# Altium schematic symbol library YH_Design.SchLib: 153 symbols (part 1 of 3)
Pins are listed as number, name and electrical type; pins without a type are passive.

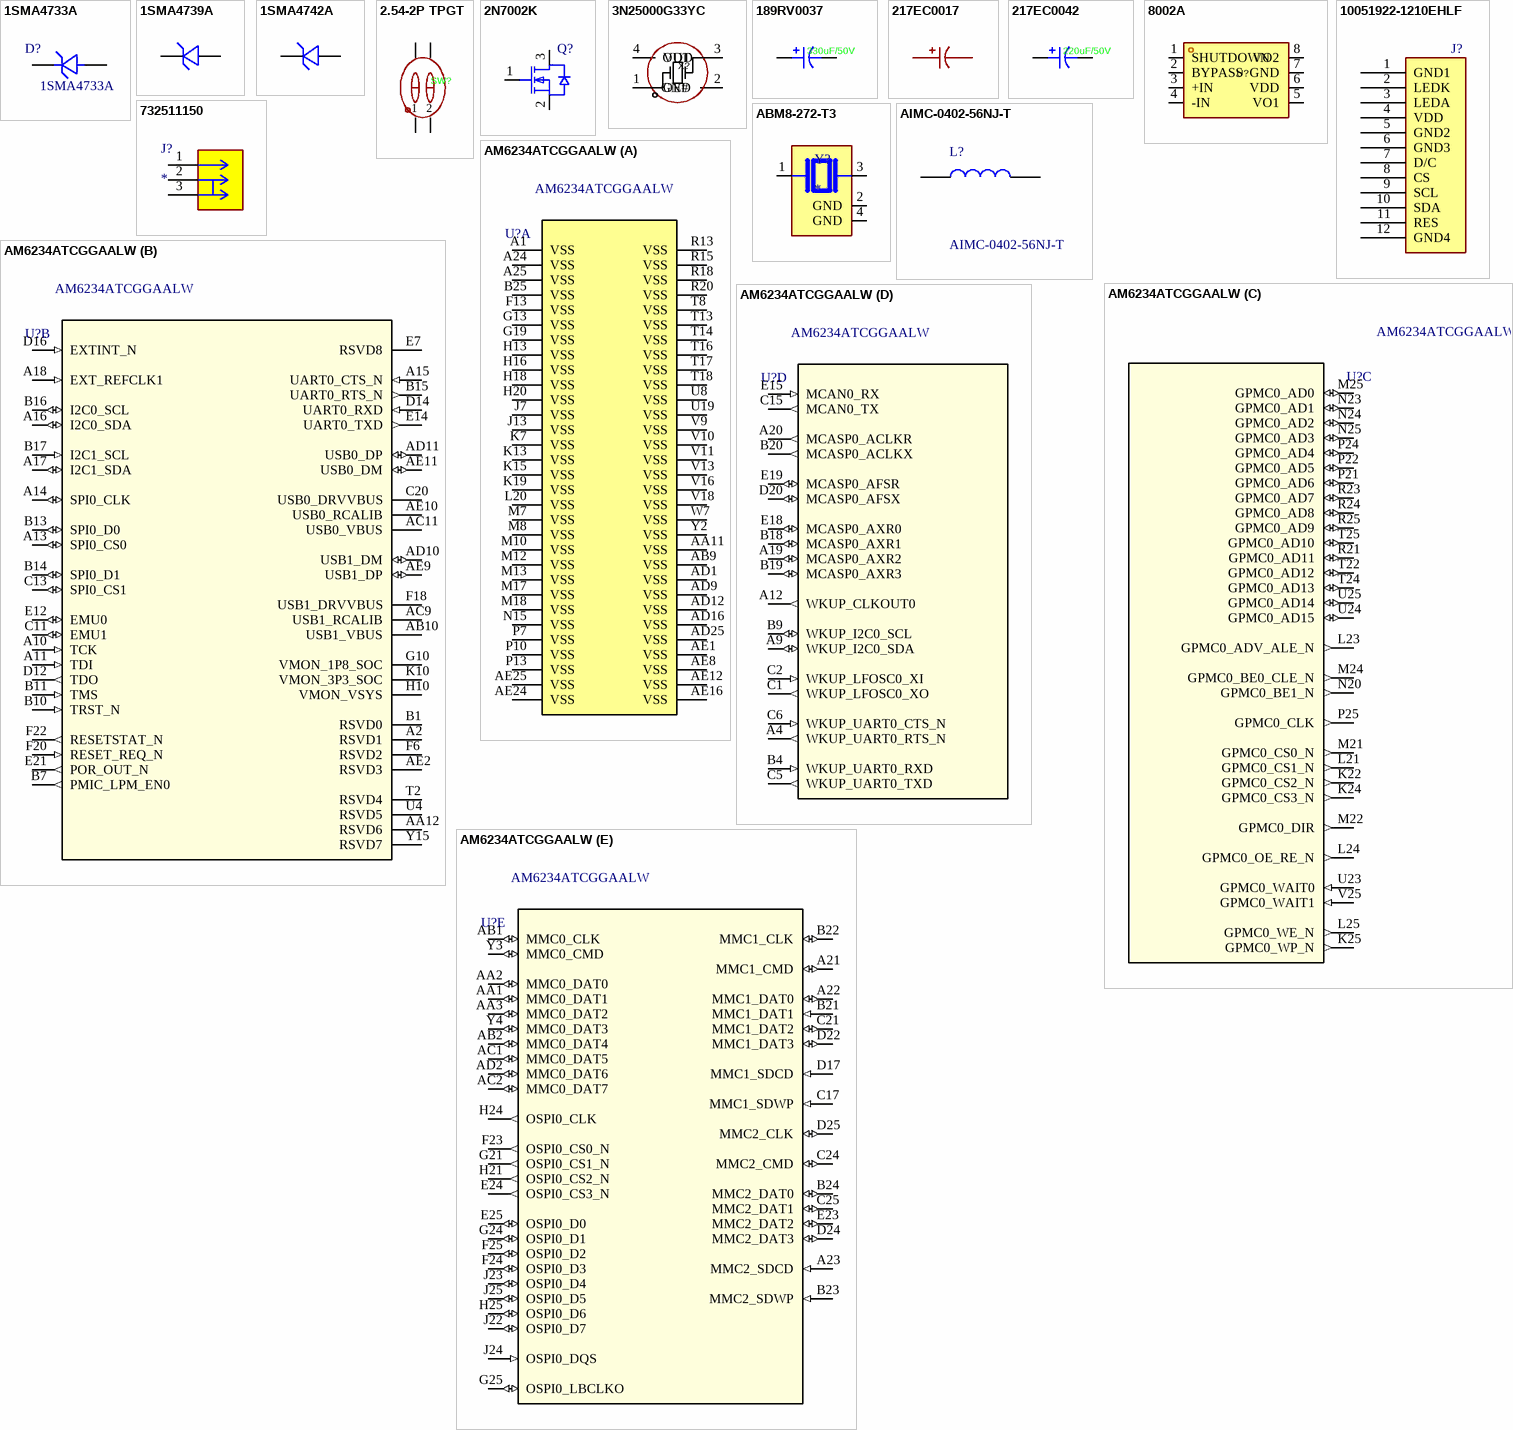
[diagram p0: symbols 1SMA4733A to AM6234ATCGGAALW]

## 1SMA4733A
designator D?
Silicon Planar Zener Diodes VZT 5.1V IZT 49mA 1W; Manufacturer: 晶导微电子; Symbol: 1SMA4733A_C382953; Add into BOM: yes; Diode Configuration: 独立式; Reverse Leakage Current (Ir): 10uA@1V; Zener Voltage(Range): 4.84V~5.36V; Impedance(Zzt): 7Ω; Device: 1SMA4733A_C382953; LCSC Part Name: 1SMA4733A; Supplier Part: C382953; Manufacturer Part: 1SMA4733A; Supplier Footprint: SMA; JLCPCB Part Class: Extended Part; Datasheet: https://atta.szlcsc.com/upload/public/pdf/source/20191016/C438379_D516EA6EC0252B18A685B1726D67BD37.pdf; Supplier: LCSC; Convert to PCB: yes; Zener Voltage(Nom): 5.1V; Pd - Power Dissipation: 1W
3D model SMA_L4.4-W2.6-LS5.0-RD
footprint SMA_L4.4-W2.6-LS5.0-RD
pins: 1 C, 2 A

## 1SMA4739A
designator D?  (value not drawn)
9.1V 1W SMA; Manufacturer: MDD(辰达半导体); Manufacturer Part: 1SMA4742A; Symbol: 1SMA4742A_C173481; Add into BOM: yes; Diode Configuration: 独立式; Zener Voltage (Nom): 12V; Reverse Leakage Current (Ir): 5uA@9V; Zener Voltage (Range): 11.4V~12.6V; Zener Impedance (Zzt): 9Ω; Device: 1SMA4742A_C173481; LCSC Part Name: 1SMA4742A; Supplier Part: C173481; Supplier Footprint: SMA(DO-214AC); JLCPCB Part Class: Extended Part; Datasheet: https://atta.szlcsc.com/upload/public/pdf/source/20241121/6A90EB39D7D47FD79B211E0E428AD9BC.pdf; Supplier: LCSC; Convert to PCB: yes; Power Dissipation: 1W
footprint SMA_L4.4-W2.8-LS5.4-RD
3D model SMA_L4.4-W2.8-LS5.4-RD
footprint SMA_L4.4-W2.8-LS5.4-RD
pins: 1, 2

## 1SMA4742A
designator D?  (value not drawn)
Manufacturer: MDD(辰达半导体); Symbol: 1SMA4742A_C173481; Add into BOM: yes; Diode Configuration: 独立式; Zener Voltage (Nom): 12V; Reverse Leakage Current (Ir): 5uA@9V; Zener Voltage (Range): 11.4V~12.6V; Power Dissipation: 1W; Zener Impedance (Zzt): 9Ω; Device: 1SMA4742A_C173481; LCSC Part Name: 1SMA4742A; Supplier Part: C173481; Manufacturer Part: 1SMA4742A; Supplier Footprint: SMA(DO-214AC); JLCPCB Part Class: Extended Part; Datasheet: https://atta.szlcsc.com/upload/public/pdf/source/20241121/6A90EB39D7D47FD79B211E0E428AD9BC.pdf; Supplier: LCSC; Convert to PCB: yes
footprint SMA_L4.4-W2.8-LS5.4-RD
3D model SMA_L4.4-W2.8-LS5.4-RD
pins: 1, 2

## 2.54-2P TPGT
designator SW?  (value not drawn)
Manufacturer: SHOU HAN(首韩); Add into BOM: yes; Circuit: 单刀单掷; Number of Positions: 2位; Current Rating: 25mA; Voltage Rating: 24V; Operating Life: 3千次; Symbol: 2.54-2P TPGT; Device: 2.54-2P TPGT; LCSC Part Name: 间距2.54mm 2位高推 拨码开关 贴片; Supplier Part: C6331180; Manufacturer Part: 2.54-2P TPGT; Supplier Footprint: SMD; JLCPCB Part Class: Extended Part; Datasheet: https://atta.szlcsc.com/upload/public/pdf/source/20240424/A4A1EBABB5A9ACD9055BAE86C09CD877.pdf; Supplier: LCSC; Convert to PCB: yes; Type: 平拨,凸起式; Lead Pitch: 2.54mm; Color: 黑色
footprint SW-SMD_2P-L5.1-W6.2-P2.54-LS9.4-BL
3D model SW-SMD_2P-L5.1-W6.2-P2.54-LS9.4-BL
pins: 1 PIN1, 2 PIN2, 3 PIN3, 4 PIN4

## 2N7002K
designator Q?, comment 2N7002K_C414015  (value not drawn)
NMOS; Manufacturer: MDD(辰达半导体); Add into BOM: yes; Type: 1个N沟道; Drain Source Voltage (Vdss): 60V; Continuous Drain Current (Id): 500mA; Power Dissipation (Pd): 300mW; Drain Source On Resistance (RDS(on)@Vgs,Id): 900mΩ@10V; Gate Threshold Voltage (Vgs(th)@Id): 1.6V@250uA; Total Gate Charge (Qg@Vgs): 930pC@10V; Input Capacitance (Ciss@Vds): 23.8pF@30V; Reverse Transfer Capacitance (Crss@Vds): 1.5pF@30V; Symbol: 2N7002K_C414015; Device: 2N7002K_C414015; LCSC Part Name: 1个N沟道 耐压:60V 电流:500mA; Supplier Part: C414015; Manufacturer Part: 2N7002K; Supplier Footprint: SOT-23; JLCPCB Part Class: Extended Part; Datasheet: https://atta.szlcsc.com/upload/public/pdf/source/20200323/C414015_B411BFD75F9E6D6E33C8732AC1E81304.pdf; Supplier: LCSC; Convert to PCB: yes; Operating Temperature: -
footprint SOT-23-3_L2.9-W1.3-P1.90-LS2.4-BR
pins: 1 G, 2 S, 3 D

## 3N25000G33YC
designator X?  (value not drawn)
Crystal Oscillator; Manufacturer: SJK(晶科鑫); Value: 25MHz; Add into BOM: yes; Supply Voltage: 1.8V~3.3V; Supply Current (Max): 5mA; Frequency Stability(Full temperature range): ±30ppm; Symbol: 3N25000G33YC; Device: 3N25000G33YC; Supplier: LCSC; Supplier Part: C252341; Manufacturer Part: 3N25000G33YC; JLCPCB Part Class: Extended Part; LCSC Part Name: 25MHz ±30ppm 3.3V 方波; Supplier Footprint: SMD3225-4P; Datasheet: https://atta.szlcsc.com/upload/public/pdf/source/20220727/F8F6B4AD7F8550667218A23BC8AA3F82.pdf; Convert to PCB: yes; Operating Temperature: -40℃~+85℃
footprint OSC-SMD_4P-L3.2-W2.5-BL
pins: 1 OE#, 2 GND, 3 OUT, 4 VDD

## 189RV0037
designator C?, comment 330uF/50V
330uF  ±20%  50V   900mA@100KHz  120mΩ@100KHz; Manufacturer: KNSCHA(科尼盛); Symbol: 217EC0042; Add into BOM: yes; Value: 220uF; Ripple Current: 2.35A@100kHz; Equivalent Series Resistance(ESR): 28mΩ@100kHz; Pin Spacing: 5mm; Lifetime: 2000hrs@105℃; Device: 217EC0042; LCSC Part Name: 220uF ±20% 50V; Supplier Part: C42371913; Manufacturer Part: 217EC0042; Supplier Footprint: SMD,D10xL10.5mm; JLCPCB Part Class: Extended Part; Datasheet: https://atta.szlcsc.com/upload/public/pdf/source/20250307/B9BB156E73A3449E8CAC92B13449DBDC.pdf; Supplier: LCSC; Convert to PCB: yes; Tolerance: ±20%; Voltage Rating: 50V; Diameter: 10mm; Height - Seated (Max): 10.5mm; Operating Temperature: -55℃~+105℃
footprint CAP-SMD_BD10.0-L10.3-W10.3-FD
pins: 1, 2

## 217EC0017
designator C?, comment 470uF  (value not drawn)
Manufacturer: KNSCHA(科尼盛); Symbol: 217EC0017; Add into BOM: yes; Tolerance: ±20%; Voltage Rated: 35V; Ripple Current: 2.6A@100kHz; Equivalent Series Resistance(ESR): 35mΩ@100kHz; Lifetime @ Temp: 2000hrs@105℃; Device: 217EC0017; LCSC Part Name: 470uF ±20% 35V; Supplier Part: C42371888; Manufacturer Part: 217EC0017; Supplier Footprint: 插件,D8xL11.5mm; Datasheet: https://atta.szlcsc.com/upload/public/pdf/source/20241106/E8F7766292FA2D98F5F6E1FEC662FC83.pdf; Supplier: LCSC; Convert to PCB: yes; Value: 470uF; Lead Spacing: 3.5mm; Diameter: 8mm; Height - Seated (Max): 11.5mm; Operating Temperature: -55℃~+105℃
footprint CAP-TH_BD8.0-P3.50-D0.6-FD
3D model CAP-TH_D8.0-H8.0-P3.50
pins: 1, 2

## 217EC0042
designator C?, comment 220uF/50V
220uF  ±20%  50V  2.35A@100kHz 28mΩ@100kHz D-10mm L-10.5mm; Manufacturer: KNSCHA(科尼盛); Symbol: 217EC0042; Add into BOM: yes; Pin Spacing: 5mm; Lifetime: 2000hrs@105℃; Device: 217EC0042; LCSC Part Name: 220uF ±20% 50V; Supplier Part: C42371913; Manufacturer Part: 217EC0042; Supplier Footprint: SMD,D10xL10.5mm; JLCPCB Part Class: Extended Part; Datasheet: https://atta.szlcsc.com/upload/public/pdf/source/20250307/B9BB156E73A3449E8CAC92B13449DBDC.pdf; Supplier: LCSC; Convert to PCB: yes; Value: 220uF; Tolerance: ±20%; Voltage Rating: 50V; Ripple Current: 2.35A@100kHz; Equivalent Series Resistance(ESR): 28mΩ@100kHz; Diameter: 10mm; Height - Seated (Max): 10.5mm; Operating Temperature: -55℃~+105℃
footprint CAP-SMD_BD10.0-L10.3-W10.3-LS11.0-FD-1
pins: 1, 2

## 8002A
designator U?
Manufacturer: IDCHIP(英锐芯); Symbol: 8002A; Add into BOM: yes; Speaker Channels: 单声道; Output Power: 3Wx1@4Ω; Supply Voltage: 2.2V~5.5V; Device: 8002A; LCSC Part Name: 8002A; Supplier Part: C329448; Manufacturer Part: 8002A; Supplier Footprint: SOP-8; JLCPCB Part Class: Extended Part; Datasheet: https://atta.szlcsc.com/upload/public/pdf/source/20190322/C329448_5EF9C50C87CEA30F05517486CD56551D.pdf; Supplier: LCSC; Convert to PCB: yes; Type of Power Amplifier: -; Quiescent Current (Iq): -; Operating Temperature: -
footprint SOP-8_L4.9-W3.9-P1.27-LS6.0-BL-EP
pins: 1 SHUTDOWN, 2 BYPASS, 3 +IN, 4 -IN, 5 VO1, 6 VDD, 7 GND, 8 VO2

## 10051922-1210EHLF
designator J?
0.50mm Flex Connector, VLL Series, 12 Position, Lower Side Contact, Side Entry Surface Mount ZIF Connector, Halogen-free & Lead Free Type.; MF: Amphenol ICC (FCI); MP: 10051922-1210EHLF; Package: None; Price: None; Value: *; Availability: Unavailable
footprint AMPHENOL_10051922-1210EHLF
pins: 1 GND1, 2 LEDK, 3 LEDA, 4 VDD, 5 GND2, 6 GND3, 7 D/C, 8 CS, 9 SCL, 10 SDA, 11 RES, 12 GND4

## 732511150
designator J?
Right Angle 50Ohms Edge Mount SMA Connector, jack, Solder Termination | Molex Incorporated 73251-1150; SnapEDA_Link: https://www.snapeda.com/parts/73251-1150/Molex/view-part/?ref=snap; Package: None; Value: *; MF: Molex; MP: 73251-1150; Check_prices: https://www.snapeda.com/parts/73251-1150/Molex/view-part/?ref=eda
footprint CONN_73251-1150_MOL
pins: 1, 2, 3

## ABM8-272-T3
designator Y?
12 MHz Â±30ppm Crystal 10pF 50 Ohms 4-SMD, No Lead; MF: ABRACON; MP: ABM8-272-T3; SnapEDA_Link: https://www.snapeda.com/parts/ABM8-272-T3/Abracon/view-part/?ref=snap; Package: NON-STANDARD-4 Abracon; Value: *; Check_prices: https://www.snapeda.com/parts/ABM8-272-T3/Abracon/view-part/?ref=eda
footprint XTAL_ABM8-272-T3
pins: 1, 2 GND (power), 3, 4 GND (power)

## AIMC-0402-56NJ-T
designator L?
56 nH Unshielded Multilayer Inductor 200 mA 1.8Ohm Max 0402 (1005 Metric); Manufacturer_Name: ABRACON; Geometry.Height: 0.65mm; Manufacturer_Part_Number: AIMC-0402-56NJ-T; Mouser Part Number: *; Mouser Price/Stock: *; Arrow Part Number: *; Arrow Price/Stock: *; Datasheet Link: https://abracon.com/Magnetics/new/AIMC-0402.pdf
footprint INDC1005X65N
pins: 1, 2

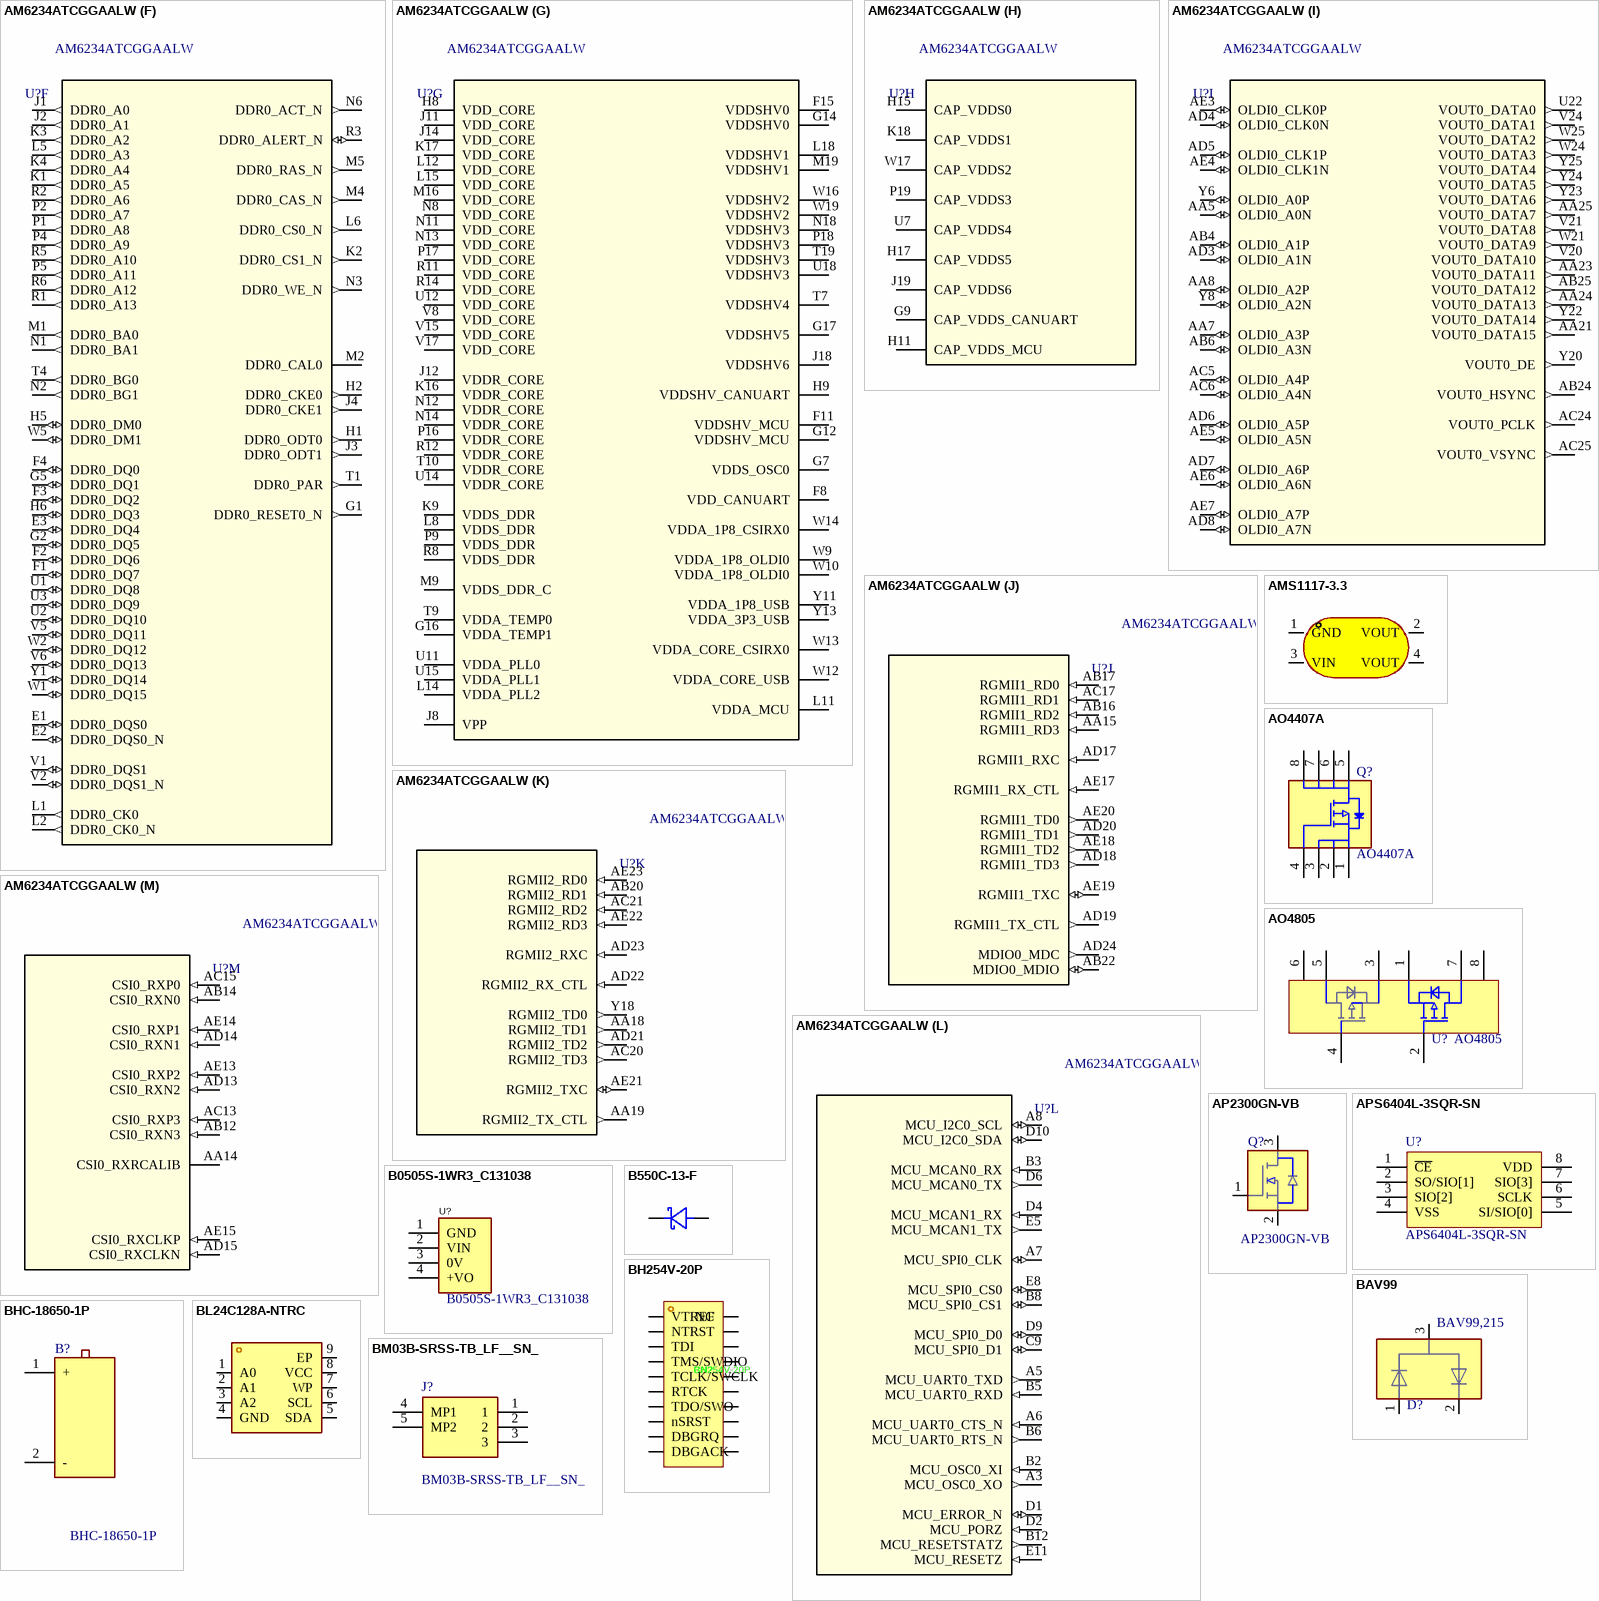
[diagram p1: symbols AM6234ATCGGAALW to BM03B-SRSS-TB_LF__SN_]

## AM6234ATCGGAALW
designator U?
Internet of Things (IoT) and gateway SoC with ArmÂ® CortexÂ®-A53-based object and gesture recognition 425-FCCSP -40 to 105; Manufacturer_Name: Texas Instruments; Manufacturer_Part_Number: XAM6234ATCGGAALW; TYPE: TYPE; RefDes: RefDes; Copyright: Copyright (C) 2026 Ultra Librarian. All rights reserved.
footprint ALW0425A-MFG
part A pins: A1 VSS (power), A24 VSS (power), A25 VSS (power), AA11 VSS (power), AB9 VSS (power), AD1 VSS (power), AD9 VSS (power), AD12 VSS (power), AD16 VSS (power), AD25 VSS (power), AE1 VSS (power), AE8 VSS (power), AE12 VSS (power), AE16 VSS (power), AE24 VSS (power), AE25 VSS (power), B25 VSS (power), F13 VSS (power), G13 VSS (power), G19 VSS (power), H13 VSS (power), H16 VSS (power), H18 VSS (power), H20 VSS (power), J7 VSS (power), J13 VSS (power), K7 VSS (power), K13 VSS (power), K15 VSS (power), K19 VSS (power), L20 VSS (power), M7 VSS (power), M8 VSS (power), M10 VSS (power), M12 VSS (power), M13 VSS (power), M17 VSS (power), M18 VSS (power), N15 VSS (power), P7 VSS (power), P10 VSS (power), P13 VSS (power), R13 VSS (power), R15 VSS (power), R18 VSS (power), R20 VSS (power), T8 VSS (power), T13 VSS (power), T14 VSS (power), T16 VSS (power), T17 VSS (power), T18 VSS (power), U8 VSS (power), U19 VSS (power), V9 VSS (power), V10 VSS (power), V11 VSS (power), V13 VSS (power), V16 VSS (power), V18 VSS (power), W7 VSS (power), Y2 VSS (power)
part B pins: A2 RSVD1, A10 TCK (in), A11 TDI (in), A13 SPI0_CS0 (io), A14 SPI0_CLK (io), A15 UART0_CTS_N (in), A16 I2C0_SDA (io), A17 I2C1_SDA (io), A18 EXT_REFCLK1 (in), AA12 RSVD6, AB10 USB1_VBUS (power), AC9 USB1_RCALIB, AC11 USB0_VBUS (power), AD10 USB1_DM (io), AD11 USB0_DP (io), AE2 RSVD3, AE9 USB1_DP (io), AE10 USB0_RCALIB, AE11 USB0_DM (io), B1 RSVD0, B7 PMIC_LPM_EN0 (out), B10 TRST_N (in), B11 TMS (in), B13 SPI0_D0 (io), B14 SPI0_D1 (io), B15 UART0_RTS_N (out), B16 I2C0_SCL (io), B17 I2C1_SCL (in), C11 EMU1 (io), C13 SPI0_CS1 (io), C20 USB0_DRVVBUS, D12 TDO (out), D14 UART0_RXD (in), D16 EXTINT_N (in), E7 RSVD8, E12 EMU0 (io), E14 UART0_TXD (out), E21 POR_OUT_N (out), F6 RSVD2, F18 USB1_DRVVBUS, F20 RESET_REQ_N (in), F22 RESETSTAT_N (out), G10 VMON_1P8_SOC, H10 VMON_VSYS, K10 VMON_3P3_SOC, T2 RSVD4, U4 RSVD5, Y15 RSVD7
part C pins: K22 GPMC0_CS2_N (out), K24 GPMC0_CS3_N (out), K25 GPMC0_WP_N (out), L21 GPMC0_CS1_N (out), L23 GPMC0_ADV_ALE_N (out), L24 GPMC0_OE_RE_N (out), L25 GPMC0_WE_N (out), M21 GPMC0_CS0_N (out), M22 GPMC0_DIR (out), M24 GPMC0_BE0_CLE_N (out), M25 GPMC0_AD0 (io), N20 GPMC0_BE1_N (out), N23 GPMC0_AD1 (io), N24 GPMC0_AD2 (io), N25 GPMC0_AD3 (io), P21 GPMC0_AD6 (io), P22 GPMC0_AD5 (io), P24 GPMC0_AD4 (io), P25 GPMC0_CLK (out), R21 GPMC0_AD11 (io), R23 GPMC0_AD7 (io), R24 GPMC0_AD8 (io), R25 GPMC0_AD9 (io), T22 GPMC0_AD12 (io), T24 GPMC0_AD13 (io), T25 GPMC0_AD10 (io), U23 GPMC0_WAIT0 (in), U24 GPMC0_AD15 (io), U25 GPMC0_AD14 (io), V25 GPMC0_WAIT1 (in)
part D pins: A4 WKUP_UART0_RTS_N (out), A9 WKUP_I2C0_SDA (io), A12 WKUP_CLKOUT0 (out), A19 MCASP0_AXR2 (io), A20 MCASP0_ACLKR (out), B4 WKUP_UART0_RXD (in), B9 WKUP_I2C0_SCL (io), B18 MCASP0_AXR1 (io), B19 MCASP0_AXR3 (io), B20 MCASP0_ACLKX (out), C1 WKUP_LFOSC0_XO (out), C2 WKUP_LFOSC0_XI (in), C5 WKUP_UART0_TXD (out), C6 WKUP_UART0_CTS_N (in), C15 MCAN0_TX (out), D20 MCASP0_AFSX (io), E15 MCAN0_RX (in), E18 MCASP0_AXR0 (io), E19 MCASP0_AFSR (io)
part E pins: A21 MMC1_CMD (io), A22 MMC1_DAT0 (io), A23 MMC2_SDCD (in), AA1 MMC0_DAT1 (io), AA2 MMC0_DAT0 (io), AA3 MMC0_DAT2 (io), AB1 MMC0_CLK (io), AB2 MMC0_DAT4 (io), AC1 MMC0_DAT5 (io), AC2 MMC0_DAT7 (io), AD2 MMC0_DAT6 (io), B21 MMC1_DAT1 (in), B22 MMC1_CLK (io), B23 MMC2_SDWP (in), B24 MMC2_DAT0 (io), C17 MMC1_SDWP (in), C21 MMC1_DAT2 (io), C24 MMC2_CMD (io), C25 MMC2_DAT1 (io), D17 MMC1_SDCD (in), D22 MMC1_DAT3 (io), D24 MMC2_DAT3 (io), D25 MMC2_CLK (io), E23 MMC2_DAT2 (io), E24 OSPI0_CS3_N (out), E25 OSPI0_D0 (io), F23 OSPI0_CS0_N (out), F24 OSPI0_D3 (io), F25 OSPI0_D2 (io), G21 OSPI0_CS1_N (out), G24 OSPI0_D1 (io), G25 OSPI0_LBCLKO (io), H21 OSPI0_CS2_N (out), H24 OSPI0_CLK (out), H25 OSPI0_D6 (io), J22 OSPI0_D7 (io), J23 OSPI0_D4 (io), J24 OSPI0_DQS (in), J25 OSPI0_D5 (io), Y3 MMC0_CMD (io), Y4 MMC0_DAT3 (io)
part F pins: E1 DDR0_DQS0 (io), E2 DDR0_DQS0_N (io), E3 DDR0_DQ4 (io), F1 DDR0_DQ7 (io), F2 DDR0_DQ6 (io), F3 DDR0_DQ2 (io), F4 DDR0_DQ0 (io), G1 DDR0_RESET0_N (out), G2 DDR0_DQ5 (io), G5 DDR0_DQ1 (io), H1 DDR0_ODT0 (out), H2 DDR0_CKE0 (out), H5 DDR0_DM0 (io), H6 DDR0_DQ3 (io), J1 DDR0_A0 (out), J2 DDR0_A1 (out), J3 DDR0_ODT1 (out), J4 DDR0_CKE1 (out), K1 DDR0_A5 (out), K2 DDR0_CS1_N (out), K3 DDR0_A2 (out), K4 DDR0_A4 (out), L1 DDR0_CK0 (out), L2 DDR0_CK0_N (out), L5 DDR0_A3 (out), L6 DDR0_CS0_N (out), M1 DDR0_BA0 (out), M2 DDR0_CAL0, M4 DDR0_CAS_N (out), M5 DDR0_RAS_N (out), N1 DDR0_BA1 (out), N2 DDR0_BG1 (out), N3 DDR0_WE_N (out), N6 DDR0_ACT_N (out), P1 DDR0_A8 (out), P2 DDR0_A7 (out), P4 DDR0_A9 (out), P5 DDR0_A11 (out), R1 DDR0_A13 (out), R2 DDR0_A6 (out), R3 DDR0_ALERT_N (io), R5 DDR0_A10 (out), R6 DDR0_A12 (out), T1 DDR0_PAR (out), T4 DDR0_BG0 (out), U1 DDR0_DQ8 (io), U2 DDR0_DQ10 (io), U3 DDR0_DQ9 (io), V1 DDR0_DQS1 (io), V2 DDR0_DQS1_N (io), V5 DDR0_DQ11 (io), V6 DDR0_DQ13 (io), W1 DDR0_DQ15 (io), W2 DDR0_DQ12 (io), W5 DDR0_DM1 (io), Y1 DDR0_DQ14 (io)
part G pins: F8 VDD_CANUART (power), F11 VDDSHV_MCU (power), F15 VDDSHV0 (power), G7 VDDS_OSC0 (power), G12 VDDSHV_MCU (power), G14 VDDSHV0 (power), G16 VDDA_TEMP1 (power), G17 VDDSHV5 (power), H8 VDD_CORE (power), H9 VDDSHV_CANUART (power), J8 VPP (power), J11 VDD_CORE (power), J12 VDDR_CORE (power), J14 VDD_CORE (power), J18 VDDSHV6 (power), K9 VDDS_DDR (power), K16 VDDR_CORE (power), K17 VDD_CORE (power), L8 VDDS_DDR (power), L11 VDDA_MCU (power), L12 VDD_CORE (power), L14 VDDA_PLL2 (power), L15 VDD_CORE (power), L18 VDDSHV1 (power), M9 VDDS_DDR_C (power), M16 VDD_CORE (power), M19 VDDSHV1 (power), N8 VDD_CORE (power), N11 VDD_CORE (power), N12 VDDR_CORE (power), N13 VDD_CORE (power), N14 VDDR_CORE (power), N18 VDDSHV3 (power), P9 VDDS_DDR (power), P16 VDDR_CORE (power), P17 VDD_CORE (power), P18 VDDSHV3 (power), R8 VDDS_DDR (power), R11 VDD_CORE (power), R12 VDDR_CORE (power), R14 VDD_CORE (power), T7 VDDSHV4 (power), T9 VDDA_TEMP0 (power), T10 VDDR_CORE (power), T19 VDDSHV3 (power), U11 VDDA_PLL0 (power), U12 VDD_CORE (power), U14 VDDR_CORE (power), U15 VDDA_PLL1 (power), U18 VDDSHV3 (power), V8 VDD_CORE (power), V15 VDD_CORE (power), V17 VDD_CORE (power), W9 VDDA_1P8_OLDI0 (power), W10 VDDA_1P8_OLDI0 (power), W12 VDDA_CORE_USB (power), W13 VDDA_CORE_CSIRX0 (power), W14 VDDA_1P8_CSIRX0 (power), W16 VDDSHV2 (power), W19 VDDSHV2 (power), Y11 VDDA_1P8_USB (power), Y13 VDDA_3P3_USB (power)
part H pins: G9 CAP_VDDS_CANUART, H11 CAP_VDDS_MCU, H15 CAP_VDDS0, H17 CAP_VDDS5, J19 CAP_VDDS6, K18 CAP_VDDS1, P19 CAP_VDDS3, U7 CAP_VDDS4, W17 CAP_VDDS2
part I pins: AA5 OLDI0_A0N (io), AA7 OLDI0_A3P (io), AA8 OLDI0_A2P (io), AA21 VOUT0_DATA15 (out), AA23 VOUT0_DATA11 (out), AA24 VOUT0_DATA13 (out), AA25 VOUT0_DATA7 (out), AB4 OLDI0_A1P (io), AB6 OLDI0_A3N (io), AB24 VOUT0_HSYNC (out), AB25 VOUT0_DATA12 (out), AC5 OLDI0_A4P (io), AC6 OLDI0_A4N (io), AC24 VOUT0_PCLK (out), AC25 VOUT0_VSYNC (out), AD3 OLDI0_A1N (io), AD4 OLDI0_CLK0N (io), AD5 OLDI0_CLK1P (io), AD6 OLDI0_A5P (io), AD7 OLDI0_A6P (io), AD8 OLDI0_A7N (io), AE3 OLDI0_CLK0P (io), AE4 OLDI0_CLK1N (io), AE5 OLDI0_A5N (io), AE6 OLDI0_A6N (io), AE7 OLDI0_A7P (io), U22 VOUT0_DATA0 (out), V20 VOUT0_DATA10 (out), V21 VOUT0_DATA8 (out), V24 VOUT0_DATA1 (out), W21 VOUT0_DATA9 (out), W24 VOUT0_DATA3 (out), W25 VOUT0_DATA2 (out), Y6 OLDI0_A0P (io), Y8 OLDI0_A2N (io), Y20 VOUT0_DE (out), Y22 VOUT0_DATA14 (out), Y23 VOUT0_DATA6 (out), Y24 VOUT0_DATA5 (out), Y25 VOUT0_DATA4 (out)
part J pins: AA15 RGMII1_RD3 (in), AB16 RGMII1_RD2 (in), AB17 RGMII1_RD0 (in), AB22 MDIO0_MDIO (io), AC17 RGMII1_RD1 (in), AD17 RGMII1_RXC (in), AD18 RGMII1_TD3 (out), AD19 RGMII1_TX_CTL (out), AD20 RGMII1_TD1 (out), AD24 MDIO0_MDC (out), AE17 RGMII1_RX_CTL (in), AE18 RGMII1_TD2 (out), AE19 RGMII1_TXC (io), AE20 RGMII1_TD0 (out)
part K pins: AA18 RGMII2_TD1 (out), AA19 RGMII2_TX_CTL (out), AB20 RGMII2_RD1 (in), AC20 RGMII2_TD3 (out), AC21 RGMII2_RD2 (in), AD21 RGMII2_TD2 (out), AD22 RGMII2_RX_CTL (in), AD23 RGMII2_RXC (in), AE21 RGMII2_TXC (io), AE22 RGMII2_RD3 (in), AE23 RGMII2_RD0 (in), Y18 RGMII2_TD0 (out)
part L pins: A3 MCU_OSC0_XO (out), A5 MCU_UART0_TXD (out), A6 MCU_UART0_CTS_N (in), A7 MCU_SPI0_CLK (io), A8 MCU_I2C0_SCL (io), B2 MCU_OSC0_XI (in), B3 MCU_MCAN0_RX (in), B5 MCU_UART0_RXD (in), B6 MCU_UART0_RTS_N (out), B8 MCU_SPI0_CS1 (io), B12 MCU_RESETSTATZ (out), C9 MCU_SPI0_D1 (io), D1 MCU_ERROR_N (io), D2 MCU_PORZ (in), D4 MCU_MCAN1_RX (in), D6 MCU_MCAN0_TX (out), D9 MCU_SPI0_D0 (io), D10 MCU_I2C0_SDA (io), E5 MCU_MCAN1_TX (out), E8 MCU_SPI0_CS0 (io), E11 MCU_RESETZ (in)
part M pins: AA14 CSI0_RXRCALIB, AB12 CSI0_RXN3 (in), AB14 CSI0_RXN0 (in), AC13 CSI0_RXP3 (in), AC15 CSI0_RXP0 (in), AD13 CSI0_RXN2 (in), AD14 CSI0_RXN1 (in), AD15 CSI0_RXCLKN (in), AE13 CSI0_RXP2 (in), AE14 CSI0_RXP1 (in), AE15 CSI0_RXCLKP (in)

## AMS1117-3.3
designator U?  (value not drawn)
Manufacturer: AMS; Device: AMS1117-3.3_C6186; Add into BOM: yes; Output Type: 固定; Output Voltage: 3.3V; Output Current: 1A; Power Supply Rejection Ratio (PSRR): 72dB@(120Hz); Voltage Dropout: 1.3V@(800mA); Output Configuration: 正极; Number of Outputs: 1; Symbol: AMS1117-3.3; LCSC Part Name: 输出3.3V 1A; Supplier Part: C6186; Manufacturer Part: AMS1117-3.3; Supplier Footprint: SOT-223; JLCPCB Part Class: Basic Part; Datasheet: https://atta.szlcsc.com/upload/public/pdf/source/20180727/C6186_7A095716F0823C02F1997A905E26C086.pdf; Supplier: LCSC; Convert to PCB: yes; Voltage - Supply: -; standby current: -; Noise: -; Features: 过流保护(OCP)；热关断(TSD); Operating Temperature: -
footprint SOT-223-3_L6.5-W3.4-P2.30-LS7.0-BR
3D model SOT-223-4P_L6.5-W3.5-H1.6-LS7.0-P2.30
pins: 1 GND, 2 VOUT, 3 VIN, 4 VOUT

## AO4407A
designator Q?
30V P-Channel MOSFET; Manufacturer_Name: Alpha & Omega Semiconductors; Geometry.Height: 1.75mm; Manufacturer_Part_Number: AO4407A; Mouser Part Number: *; Mouser Price/Stock: *; Arrow Part Number: AO4407A; Arrow Price/Stock: https://www.arrow.com/en/products/ao4407a/alpha-and-omega-semiconductor?utm_currency=USD&region=nac; Datasheet Link: http://aosmd.com/res/data_sheets/AO4407A.pdf
footprint SOIC127P600X175-8N
pins: 1 S_1, 2 S_2, 3 S_3, 4 G, 5 D_1, 6 D_2, 7 D_3, 8 D_4

## AO4805
designator U?
Trans MOSFET P-CH 30V 9A 8-Pin SOIC; Manufacturer_Name: Alpha & Omega Semiconductors; Geometry.Height: 1.75mm; Manufacturer_Part_Number: AO4805; Mouser Part Number: *; Mouser Price/Stock: *; Arrow Part Number: AO4805; Arrow Price/Stock: https://www.arrow.com/en/products/ao4805/alpha-and-omega-semiconductor?utm_currency=USD&region=nac; Datasheet Link: http://www.aosmd.com/res/data_sheets/AO4805.pdf
footprint SOIC127P600X175-8N
pins: 1 S2, 2 G2, 3 S1, 4 G1, 5 D1_1, 6 D1_2, 7 D2_1, 8 D2_2

## AP2300GN-VB
designator Q?
Halogen-free According to IEC 61249-2-21 Definition  TrenchFET Power MOSFET  100 % Rg Tested  Compliant to RoHS Directive 2002/95/EC; Manufacturer_Name: VBsemi Elec; Geometry.Height: 1.12mm; Manufacturer_Part_Number: AP2300GN-VB; Mouser Part Number: *; Mouser Price/Stock: *; Arrow Part Number: *; Arrow Price/Stock: *; Datasheet Link: https://datasheet.lcsc.com/lcsc/2211010930_VBsemi-Elec-AP2300GN-VB_C709910.pdf
footprint SOT95P237X112-3N
pins: 1 G, 2 S, 3 D

## APS6404L-3SQR-SN
designator U?
DRAM IoT RAM 64Mb QSPI (x1,x4) SDR 133/84MHz, RBX, 3V, Ind. Temp., SOP8; Manufacturer_Name: AP Memory; Geometry.Height: 1.75mm; Manufacturer_Part_Number: APS6404L-3SQR-SN; Mouser Part Number: 878-APS6404L-3SQR-SN; Mouser Price/Stock: https://www.mouser.co.uk/ProductDetail/AP-Memory/APS6404L-3SQR-SN?qs=IS%252B4QmGtzzqsn3S5xo%2FEEg%3D%3D; Arrow Part Number: *; Arrow Price/Stock: *; Datasheet Link: https://eu.mouser.com/datasheet/2/1127/APM_PSRAM_QSPI_APS6404L_3SQR_v2_3_PKG-1954826.pdf
footprint SOIC127P600X175-8N
pins: 1 ~{CE}, 2 SO/SIO[1], 3 SIO[2], 4 VSS, 5 SI/SIO[0], 6 SCLK, 7 SIO[3], 8 VDD

## B0505S-1WR3_C131038
designator U?
Iso DC/DC Module; Manufacturer: MORNSUN(金升阳); Add into BOM: yes; Conversion Type: DC-DC; Input Voltage(DC): 4.5V~5.5V; Output Voltage: 5V; Output Power: 1W; Output Current (Max): 200mA; Isolation or not: 隔离; Output Channel: 1; Insulated Voltage: 3kV; Conversion Efficiency: 82%; Symbol: B0505S-1WR3; Device: B0505S-1WR3_C131038; Supplier: LCSC; Manufacturer Part: B0505S-1WR3; Supplier Part: C131038; JLCPCB Part Class: Extended Part; LCSC Part Name: B0505S-1WR3; Supplier Footprint: SIP,11.6x6mm; Datasheet: https://atta.szlcsc.com/upload/public/pdf/source/20171014/C133158_15079754745431038194.pdf; Convert to PCB: yes; Function: -; Feature: 短路保护; Maximum Capacitive Load: -
footprint PWRM-TH_B0503S-1WR2
pins: 1 GND, 2 VIN, 3 0V, 4 +VO

## B550C-13-F
designator D?  (value not drawn)
Manufacturer: DIODES(美台); Add into BOM: yes; Forward Voltage (Vf@If): 575mV@5A; Reverse Voltage (Vr): 50V; Rectified Current: 5A; Reverse Leakage Current (Ir): 500uA@50V; Symbol: B550C-13-F; Device: B550C-13-F; LCSC Part Name: 电压:50V 电流:5A; Supplier Part: C134461; Manufacturer Part: B550C-13-F; Supplier Footprint: SMC(DO-214AB); JLCPCB Part Class: Extended Part; Datasheet: https://atta.szlcsc.com/upload/public/pdf/source/20171023/C134461_15087453602301052556.pdf; Supplier: LCSC; Convert to PCB: yes; Diode Configuration: -
footprint SMC_L6.9-W5.9-LS7.9-RD
3D model SMC_L6.9-W5.9-LS7.9-RD
footprint SMC_L6.9-W5.9-LS7.9-RD
pins: 1 C, 2 A

## BAV99
designator D?, comment BAV99,215
High-speed switching diode; Manufacturer: Nexperia(安世); Add into BOM: yes; Diode Configuration: 1对串联式; Forward Voltage (Vf@If): 1.25V@150mA; Reverse Voltage (Vr): 100V; Average Rectified Current (Io): 215mA; Power Dissipation: 250mW; Reverse Leakage Current: 500nA@80V; Reverse Recovery Time (trr): 4ns; Symbol: BAV99,215; Device: BAV99,215; Supplier: LCSC; Manufacturer Part: BAV99,215; Supplier Part: C2500; JLCPCB Part Class: Basic Part; LCSC Part Name: 电压:100V 电流:215mA; Supplier Footprint: SOT-23; Datasheet: https://atta.szlcsc.com/upload/public/pdf/source/20151007/1457707429518.pdf; Convert to PCB: yes; Operating Temperature: -
footprint SOT-23-3_L2.9-W1.6-P1.90-LS2.8-BR
pins: 1, 2, 3

## BH254V-20P
designator CN?
JTAG Connector; Manufacturer: XFCN(兴飞); Add into BOM: yes; Connector Type: 简牛座; Structure: 2x10P; Current Rating (Max): 3A; Voltage Rating (Max): 250V; Holder Type: 直插; Row Spacing: 2.54mm; Pin Number in each Row: 10; Symbol: BH254V-20P; Device: BH254V-20P; LCSC Part Name: 2x10P 排数:2 每排P数:10; Supplier Part: C492444; Manufacturer Part: BH254V-20P; Supplier Footprint: 插件,P=2.54mm; JLCPCB Part Class: Extended Part; Datasheet: https://atta.szlcsc.com/upload/public/pdf/source/20200312/C492444_4AABE2FC4F6BE8226B85135616AF0092.pdf; Supplier: LCSC; Convert to PCB: yes; Pitch: -; Number of Rows: 2; Contact Material: -; Contact Plating: -; Operating Temperature Range: -40℃~+105℃; Soldering Temperature(Max): -
footprint CONN-TH_20P-P2.54_0702462001
3D model CONN-TH_20P-P2.54_0702462001
pins: 1 VTREF, 2 NC, 3 NTRST, 4 GND, 5 TDI, 6 GND, 7 TMS/SWDIO, 8 GND, 9 TCLK/SWCLK, 10 GND, 11 RTCK, 12 GND, 13 TDO/SWO, 14 GND, 15 nSRST, 16 GND, 17 DBGRQ, 18 GND, 19 DBGACK, 20 GND

## BHC-18650-1P
designator B?
Holder; MR18650; Batt.no: 1; for PCB; black; Manufacturer_Name: Comfortable Electronics; Geometry.Height: 21.5mm; Manufacturer_Part_Number: BHC-18650-1P; Mouser Part Number: *; Mouser Price/Stock: *; Arrow Part Number: *; Arrow Price/Stock: *; Datasheet Link: https://www.comf.com.tw/ProductDetail.asp?no=99
footprint BHC186501P
footprint BH18650PC
pins: 1 +, 2 -

## BL24C128A-NTRC
designator U?  (value not drawn)
Manufacturer: BL(上海贝岭); Add into BOM: yes; Interface: I2C; Memory Size: 128Kbit; Clock Frequency: 1MHz; Voltage - Supply: 1.7V~5.5V; Write Cycle Time(Tw): 3ms; Data Retention - TDR (Year): 100年; Write Cycle Endurance: 100万次; Symbol: BL24C128A-NTRC; Device: BL24C128A-NTRC; LCSC Part Name: EEPROM; Supplier Part: C691880; Manufacturer Part: BL24C128A-NTRC; Supplier Footprint: UDFN-8L-EP(2x3); JLCPCB Part Class: Extended Part; Datasheet: https://atta.szlcsc.com/upload/public/pdf/source/20200628/C691881_1B18D03A58A797BA138C08DC6C844082.pdf; Supplier: LCSC; Convert to PCB: yes; Operating Temperature: -40℃~+85℃
footprint UDFN-8L_L2.0-W3.0-P0.50-BL-EP
3D model UDFN-8_L2.0-W3.0-H0.6-P0.50
pins: 1 A0, 2 A1, 3 A2, 4 GND, 5 SDA, 6 SCL, 7 WP, 8 VCC, 9 EP

## BM03B-SRSS-TB_LF__SN_
designator J?
Connector Header Surface Mount 3 position 0.039" (1.00mm) 1A 50V -25C ~ 85C; Manufacturer_Name: JST (JAPAN SOLDERLESS TERMINALS); Manufacturer_Part_Number: BM03B-SRSS-TB(LF)(SN); Geometry.Height: 4.25mm; Mouser Part Number: 306-BM03BSRSSTBLFSNP; Mouser Price/Stock: https://www.mouser.co.uk/ProductDetail/JST-Commercial/BM03B-SRSS-TBLFSN?qs=cdbOS8ANM9ApPnI10xgS6Q%3D%3D; Arrow Part Number: BM03B-SRSS-TB(LF)(SN); Arrow Price/Stock: https://www.arrow.com/en/products/bm03b-srss-tb-lf-sn/jst-manufacturing?utm_currency=USD&region=europe; Datasheet Link: https://www.mouser.de/datasheet/3/70/1/Infineon-IRF8788-DataSheet-v01_01-EN.pdf
footprint BM03BSRSSTBLFSN
pins: 1, 2, 3, 4 MP1, 5 MP2

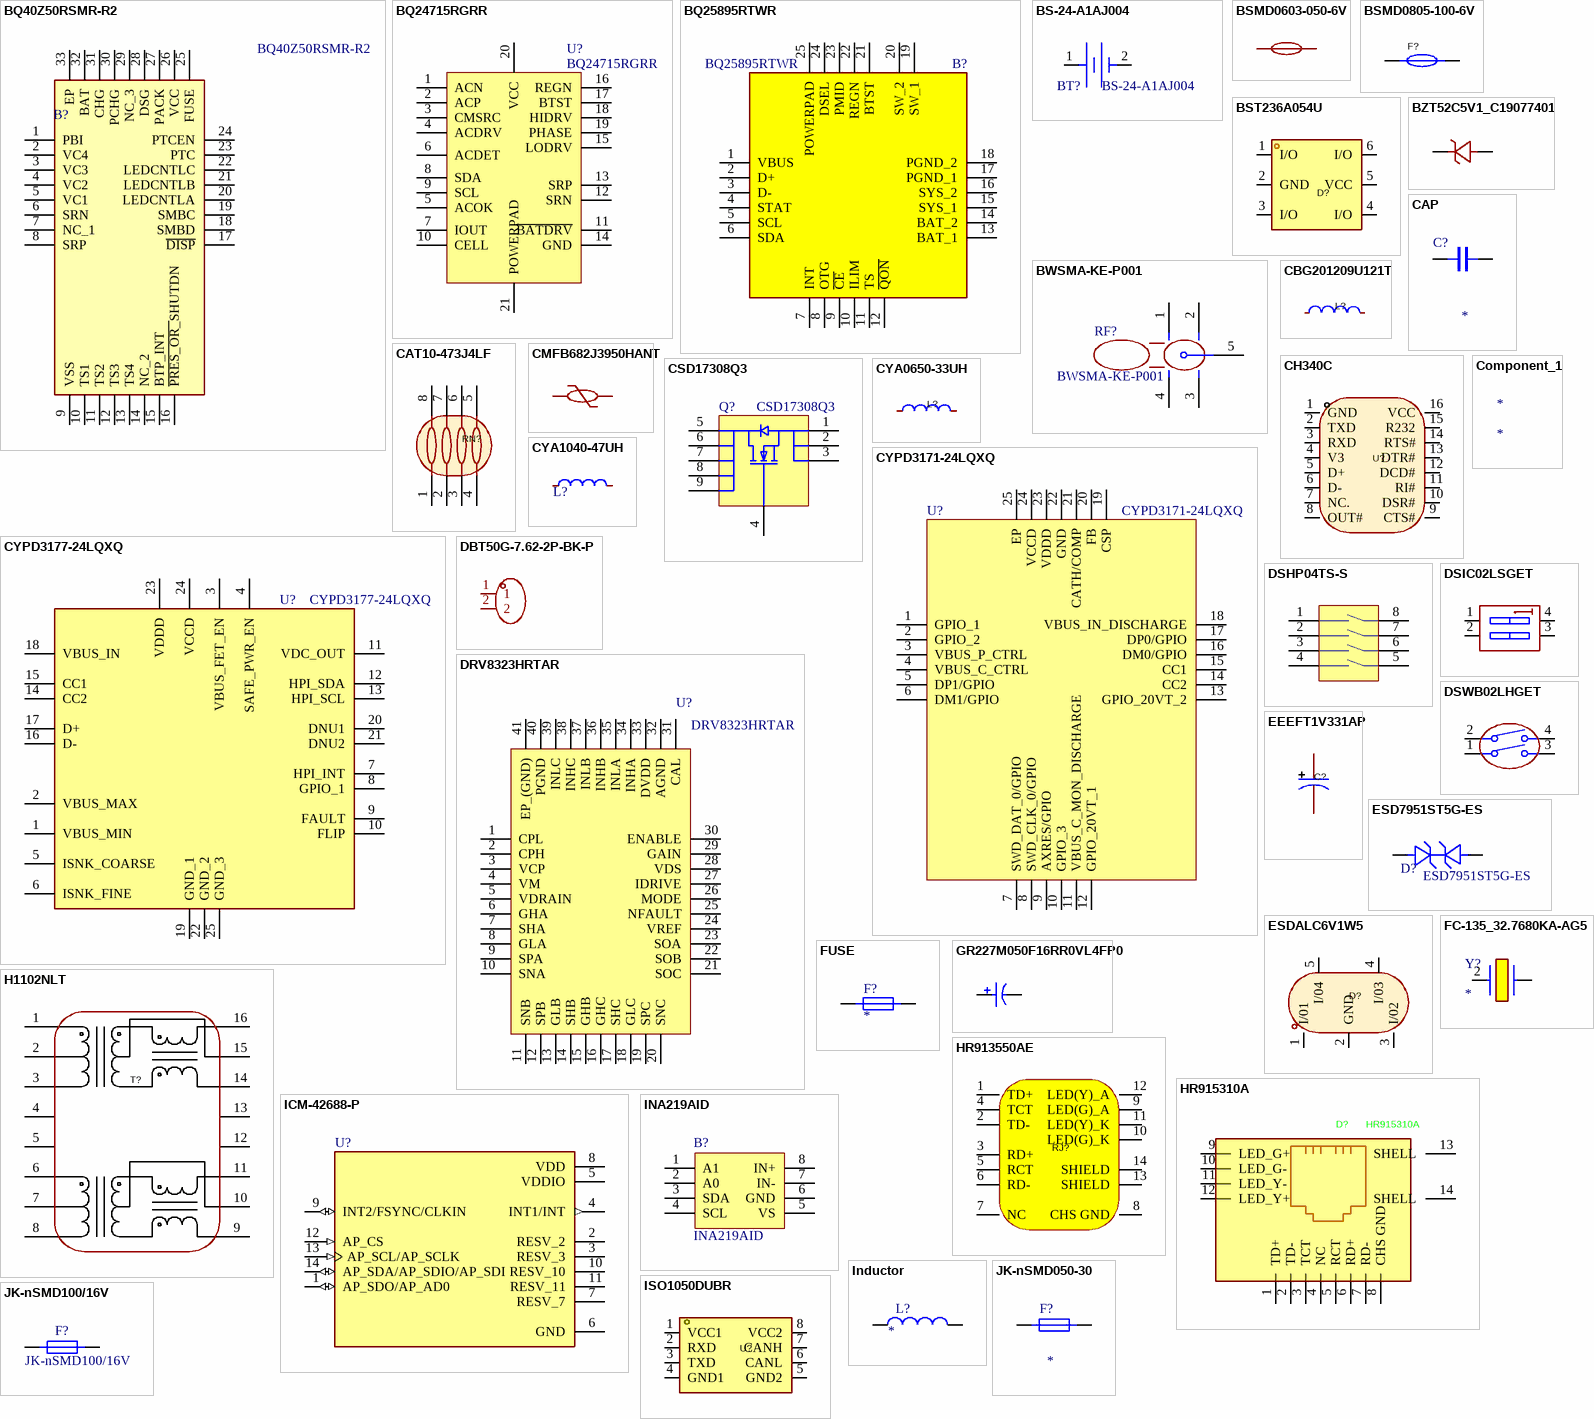
[diagram p2: symbols BQ40Z50RSMR-R2 to JK-nSMD100/16V]

## BQ40Z50RSMR-R2
designator B?
Battery Management 1-Series, 2-Series, 3-Series, and 4-Series Li-Ion Battery 32-VQFN -40 to 85; Manufacturer_Name: Texas Instruments; Geometry.Height: 1mm; Manufacturer_Part_Number: BQ40Z50RSMR-R2; Mouser Part Number: 595-BQ40Z50RSMR-R2; Mouser Price/Stock: https://www.mouser.co.uk/ProductDetail/Texas-Instruments/BQ40Z50RSMR-R2?qs=gt1LBUVyoHmsvE8FdFl4Fg%3D%3D; Arrow Part Number: BQ40Z50RSMR-R2; Arrow Price/Stock: https://www.arrow.com/en/products/bq40z50rsmr-r2/texas-instruments?utm_currency=USD&region=nac; Datasheet Link: http://www.ti.com/lit/gpn/bq40z50-r2
footprint QFN40P400X400X100-33N-D
pins: 1 PBI, 2 VC4, 3 VC3, 4 VC2, 5 VC1, 6 SRN, 7 NC_1, 8 SRP, 9 VSS, 10 TS1, 11 TS2, 12 TS3, 13 TS4, 14 NC_2, 15 BTP_INT, 16 ~{PRES_OR_}SHUTDN, 17 ~{DISP}, 18 SMBD, 19 SMBC, 20 LEDCNTLA, 21 LEDCNTLB, 22 LEDCNTLC, 23 PTC, 24 PTCEN, 25 FUSE, 26 VCC, 27 PACK, 28 DSG, 29 NC_3, 30 PCHG, 31 CHG, 32 BAT, 33 EP

## BQ24715RGRR
designator U?
2-3 Cell Li+ Battery SMBus NVDC-1 Charge Controller with N-Channel MOSFET Selectors; Manufacturer_Name: Texas Instruments; Geometry.Height: 1mm; Manufacturer_Part_Number: BQ24715RGRR; Mouser Part Number: 595-BQ24715RGRR; Mouser Price/Stock: https://www.mouser.co.uk/ProductDetail/Texas-Instruments/BQ24715RGRR?qs=biyDIajrTn47XBzYmaZUww%3D%3D; Arrow Part Number: BQ24715RGRR; Arrow Price/Stock: https://www.arrow.com/en/products/bq24715rgrr/texas-instruments?region=nac; Datasheet Link: http://www.ti.com/lit/gpn/bq24715
footprint QFN50P350X350X100-21N-D
pins: 1 ACN, 2 ACP, 3 CMSRC, 4 ACDRV, 5 ACOK, 6 ACDET, 7 IOUT, 8 SDA, 9 SCL, 10 CELL, 11 ~{BATDRV}, 12 SRN, 13 SRP, 14 GND, 15 LODRV, 16 REGN, 17 BTST, 18 HIDRV, 19 PHASE, 20 VCC, 21 POWERPAD

## BQ25895RTWR
designator B?
Single Cell 5A Fast Charger MaxCharge&#153; Technology for High Input Voltage and 3.1A Boost; Manufacturer_Name: Texas Instruments; Geometry.Height: 0.8mm; Manufacturer_Part_Number: BQ25895RTWR; Mouser Part Number: 595-BQ25895RTWR; Mouser Price/Stock: https://www.mouser.co.uk/ProductDetail/Texas-Instruments/BQ25895RTWR?qs=jpHf3Ogds1zjGxTX69sx%252Bg%3D%3D; Arrow Part Number: BQ25895RTWR; Arrow Price/Stock: https://www.arrow.com/en/products/bq25895rtwr/texas-instruments?utm_currency=USD&region=nac; Datasheet Link: http://www.ti.com/lit/gpn/bq25895
footprint QFN50P400X400X80-25N-D
pins: 1 VBUS, 2 D+, 3 D-, 4 STAT, 5 SCL, 6 SDA, 7 INT, 8 OTG, 9 ~{CE}, 10 ILIM, 11 TS, 12 ~{QON}, 13 BAT_1, 14 BAT_2, 15 SYS_1, 16 SYS_2, 17 PGND_1, 18 PGND_2, 19 SW_1, 20 SW_2, 21 BTST, 22 REGN, 23 PMID, 24 DSEL, 25 POWERPAD

## BS-24-A1AJ004
designator BT?
Manufacturer: MYOUNG(美阳); Add into BOM: yes; Connector Type: 电池底座; Battery Type: CR2450; Symbol: BS-24-A1AJ004; Device: BS-24-A1AJ004; LCSC Part Name: 电池底座 适用电池:CR2450; Supplier Part: C964806; Manufacturer Part: BS-24-A1AJ004; Supplier Footprint: 插件; JLCPCB Part Class: Extended Part; Datasheet: https://atta.szlcsc.com/upload/public/pdf/source/20201202/C964806_115FF61ACF7A9A5A95ED7DB2F65B40A8.pdf; Supplier: LCSC; Convert to PCB: yes; Contact Material: 磷青铜; Contact Plating: 镍; Operating Temperature Range: -25℃~+85℃
footprint BAT-TH_BS-24-A1AJ013
3D model BAT-TH_BS-24-A1AJ013
pins: 1 +, 2 -

## BSMD0603-050-6V
designator F?  (value not drawn)
Manufacturer: BHFUSE(佰宏); Add into BOM: yes; Operating Voltage (Max): 6V; Current Rating (Max): 40A; Hold Current: 500mA; Trip Current: 1A; Power Dissipation: 500mW; Resistance - Initial (Ri) (Min): 100mΩ; Resistance - Post Trip (R1) (Max): 800mΩ; Maximum Time to Trip: 100ms; Symbol: BSMD0603-050-6V; Device: BSMD0603-050-6V; LCSC Part Name: 6V 500mA 0603自恢复; Supplier Part: C883095; Manufacturer Part: BSMD0603-050-6V; Supplier Footprint: 0603; JLCPCB Part Class: Extended Part; Datasheet: https://atta.szlcsc.com/upload/public/pdf/source/20230512/E478DE3555A0061DA0124A9F45802B86.pdf; Supplier: LCSC; Convert to PCB: yes; Operating Temperature: -40℃~+85℃
footprint F0603
3D model F0603_L1.7-W0.9-H0.7
pins: 1, 2

## BSMD0805-100-6V
designator F?  (value not drawn)
Manufacturer: BHFUSE(佰宏); Add into BOM: yes; Operating Voltage (Max): 6V; Current Rating (Max): 40A; Hold Current: 1A; Trip Current: 2A; Power Dissipation: 600mW; Resistance - Initial (Ri) (Min): 40mΩ; Resistance - Post Trip (R1) (Max): 270mΩ; Maximum Time to Trip: 300ms; Symbol: BSMD0805-100-6V; Device: BSMD0805-100-6V; LCSC Part Name: 6V 1A 0805自恢复; Supplier Part: C883112; Manufacturer Part: BSMD0805-100-6V; Supplier Footprint: 0805; JLCPCB Part Class: Extended Part; Datasheet: https://atta.szlcsc.com/upload/public/pdf/source/20230512/7A46D6CD923C15CBB98FD769C08EDD80.pdf; Supplier: LCSC; Convert to PCB: yes; Operating Temperature: -40℃~+85℃
footprint F0805
3D model F0805_L2.1-W1.4-H0.8
pins: 1, 2

## BST236A054U
designator D?  (value not drawn)
Manufacturer: BORN(伯恩半导体); Add into BOM: yes; Reverse Stand-Off Voltage (Vrwm): 5V; Maximum Clamping Voltage: 13V; Peak Pulse Current (Ipp)@10/1000us: 3.5A; Breakdown Voltage: 6V; Type: ESD; Symbol: BST236A054U; Device: BST236A054U; LCSC Part Name: BST236A054U; Supplier Part: C406203; Manufacturer Part: BST236A054U; Supplier Footprint: SOT-23-6; JLCPCB Part Class: Extended Part; Datasheet: https://atta.szlcsc.com/upload/public/pdf/source/20190723/C406203_BF93A0BD7D0538F0A550B5A01DEB1E59.pdf; Supplier: LCSC; Convert to PCB: yes
footprint SOT-23-6_L2.9-W1.6-P0.95-LS2.8-BR
3D model SOT-23-6_L2.9-W1.6-H1.5-LS2.8-P0.95
pins: 1 I/O, 2 GND, 3 I/O, 4 I/O, 5 VCC, 6 I/O

## BWSMA-KE-P001
designator RF?
50Ohms Edge Mount SMA Connector, jack, Solder Termination; Manufacturer: BAT WIRELESS(蝙蝠无线); Add into BOM: yes; Connector Type: 板端; Interface: 内孔; Number of Ports: 1; Interface Diameter: 5.2mm; Impedance: 50Ω; Style: 偏脚; Symbol: BWSMA-KE-P001; Device: BWSMA-KE-P001; LCSC Part Name: 内孔 SMA 偏脚; Supplier Part: C496550; Manufacturer Part: BWSMA-KE-P001; Supplier Footprint: SMD; JLCPCB Part Class: Extended Part; Datasheet: https://atta.szlcsc.com/upload/public/pdf/source/20240320/28FD502871C976DFF213ABFCF2A0ED51.pdf; Supplier: LCSC; Convert to PCB: yes; Interface Length/Height: -; Value: -; RF Series: SMA; Operating Temperature Range: -
footprint SMA-SMD_BWSMA-KE-P001
3D model SMA-TH_5P-L6.5-W6.5-H9.5_BWSMA-KE-P001
pins: 1, 2, 3, 4, 5

## BZT52C5V1_C19077401
designator D?, comment BZT52C5V1  (value not drawn)
Manufacturer: 宏迦橙; Symbol: BZT52C5V1_C19077401; Add into BOM: yes; Diode Configuration: 独立式; Zener Voltage (Nom): 5.1V; Reverse Leakage Current (Ir): 2uA@2V; Zener Voltage (Range): 4.85V~5.36V; Power Dissipation: 500mW; Zener Impedance (Zzt): 60Ω; Device: BZT52C5V1_C19077401; LCSC Part Name: BZT52C5V1; Supplier Part: C19077401; Manufacturer Part: BZT52C5V1; Supplier Footprint: SOD-123; JLCPCB Part Class: Extended Part; Datasheet: https://atta.szlcsc.com/upload/public/pdf/source/20241104/A31DF82E6D0CBEC29199D0B62829516E.pdf; Supplier: LCSC; Convert to PCB: yes
footprint SOD-123_L2.7-W1.6-LS3.7-RD
3D model SOD-123_L2.7-W1.6-H1.4-LS3.7
pins: 1 K, 2 A

## CAP
designator C?
Capacitor
footprint C0805
footprint C0603
footprint C1210
footprint C1206
pins: 1, 2

## CAT10-473J4LF
designator RN?, comment 47K  (value not drawn)
Manufacturer: YAGEO(国巨); Symbol: YC124-JR-0710KL; Add into BOM: yes; Number of Resistors: 4; Value: 10kΩ; Tolerance: ±5%; Power(Watts): 62.5mW; Temperature Coefficient: ±200ppm/℃; Device: YC124-JR-0710KL; LCSC Part Name: 10kΩ ±5%; Supplier Part: C326872; Manufacturer Part: YC124-JR-0710KL; Supplier Footprint: 0402x4; JLCPCB Part Class: Extended Part; Datasheet: https://atta.szlcsc.com/upload/public/pdf/source/20181031/C326872_7ADCADFB181E82D26DE5D98DCBAEF4F5.pdf; Supplier: LCSC; Convert to PCB: yes; Number of Pins: 8
footprint RES-ARRAY-SMD_0804-8P-L2.0-W1.0-BL
3D model RES-ARRAY-SMD_0804-8P-L2.0-W1.0-H0.4-BL
pins: 1, 2, 3, 4, 5, 6, 7, 8

## CBG201209U121T
designator L?  (value not drawn)
FERRITE CHIP BEADS; Manufacturer: FH(风华); Add into BOM: yes; Impedance @ Frequency: 120Ω@100MHz; Tolerance: ±25%; DC Resistance: 200mΩ; Current Rating: 500mA; Circuits: 1; Symbol: CBG201209U121T; Device: CBG201209U121T; LCSC Part Name: 单路 0805磁珠 阻抗120Ω@100MHz; Supplier Part: C41330; Manufacturer Part: CBG201209U121T; Supplier Footprint: 0805; JLCPCB Part Class: Extended Part; Datasheet: https://atta.szlcsc.com/upload/public/pdf/source/20190129/C361667_1614D407CC98D1D3CFBD9E1F7511C14D.pdf; Supplier: LCSC; Convert to PCB: yes
footprint L0805
pins: 1, 2

## CH340C
designator U?  (value not drawn)
Manufacturer: WCH(南京沁恒); Add into BOM: yes; Applications Function: 收发器; Protocol: USB 2.0; Supply Voltage: 3.3V；5V; Data Rate: 2Mbps; Symbol: CH340C; Device: CH340C; Supplier: LCSC; Manufacturer Part: CH340C; Supplier Part: C84681; JLCPCB Part Class: Extended Part; LCSC Part Name: CH340C USB转串口芯片 CH340; Supplier Footprint: SOP-16; Datasheet: https://atta.szlcsc.com/upload/public/pdf/source/20200819/C84681_ADBED554CE321879DBD6B1D06488689C.pdf; Convert to PCB: yes
footprint SOP-16_L10.0-W3.9-P1.27-LS6.0-BL
footprint Model Name (Footprint not found)
pins: 1 GND, 2 TXD, 3 RXD, 4 V3, 5 D+, 6 D-, 7 NC., 8 OUT#, 9 CTS#, 10 DSR#, 11 RI#, 12 DCD#, 13 DTR#, 14 RTS#, 15 R232, 16 VCC

## CMFB682J3950HANT
designator R?  (value not drawn)
Manufacturer: FH(风华); Add into BOM: yes; Resistance @ 25℃: 6.8kΩ; B Constant (25℃/50℃): 3950K; B Constant Tolerance: ±3%; Symbol: CMFB682J3950HANT; Device: CMFB682J3950HANT; LCSC Part Name: CMFB682J3950HANT; Supplier Part: C338640; Manufacturer Part: CMFB682J3950HANT; Supplier Footprint: 0805; JLCPCB Part Class: Extended Part; Datasheet: https://atta.szlcsc.com/upload/public/pdf/source/20190305/C338640_CADF6EF291A1F69F4F7474FA0C52780D.pdf; Supplier: LCSC; Convert to PCB: yes; B Constant (25℃/75℃): -; B Constant (25℃/85℃): -; B Constant (25℃/100℃): -; Power(Watts): -; Steady State Current (Max): -; Operating Temperature: -40℃~+120℃
footprint R0805
3D model R0805_L2.0-W1.3-H0.6
footprint 0805 (SMD, 0805)
pins: 1, 2

## Component_1
designator *

## CSD17308Q3
designator Q?
Trans MOSFET N-CH 30V 50A 8-Pin VSON-CLIP EP T/R; Manufacturer_Name: Texas Instruments; Geometry.Height: 1.1mm; Manufacturer_Part_Number: CSD17308Q3; Mouser Part Number: 595-CSD17308Q3; Mouser Price/Stock: https://www.mouser.co.uk/ProductDetail/Texas-Instruments/CSD17308Q3?qs=EuM%2FBx4ov4TKqLeENtF8%2Fw%3D%3D; Arrow Part Number: CSD17308Q3; Arrow Price/Stock: https://www.arrow.com/en/products/csd17308q3/texas-instruments?utm_currency=USD&region=nac; Datasheet Link: http://www.ti.com/general/docs/suppproductinfo.tsp?distId=26&gotoUrl=http%3A%2F%2Fwww.ti.com%2Flit%2Fgpn%2Fcsd17308q3
footprint CSD17308Q3
pins: 1 S_1, 2 S_2, 3 S_3, 4 G, 5 D_1, 6 D_2, 7 D_3, 8 D_4, 9 D_5

## CYA0650-33UH
designator L?  (value not drawn)
Inductor; Manufacturer: SHOU HAN(首韩); Add into BOM: yes; Value: 33uH; Tolerance: ±20%; Rated Current: 2.3A; DC Resistance (DCR): 160mΩ; Symbol: CYA0650-33UH; Device: CYA0650-33UH; LCSC Part Name: 33uH ±20%; Supplier Part: C5189937; Manufacturer Part: CYA0650-33UH; Supplier Footprint: SMD,7.2x6.6mm; JLCPCB Part Class: Extended Part; Datasheet: https://atta.szlcsc.com/upload/public/pdf/source/20221010/A431319CCC6437355D8DDF0FAB4FB3F9.pdf; Supplier: LCSC; Convert to PCB: yes
footprint IND-SMD_L7.2-W6.6_GPSR0730
pins: 1, 2

## CYA1040-47UH
designator L?, comment 47uH ±20% 4A  (value not drawn)
Inductor; Manufacturer: SHOU HAN(首韩); Symbol: CYA1040-47UH; Add into BOM: yes; Rated Current: 3A; DC Resistance (DCR): 129mΩ; Device: CYA1040-47UH; LCSC Part Name: 47uH ±20% 4A; Supplier Part: C6364681; Manufacturer Part: CYA1040-47UH; Supplier Footprint: SMD,11.6x10.1mm; JLCPCB Part Class: Extended Part; Datasheet: https://atta.szlcsc.com/upload/public/pdf/source/20230523/9A87A91E25B72B1969B4F45F933B19F8.pdf; Supplier: LCSC; Convert to PCB: yes; Value: 47uH; Tolerance: ±20%; Saturation Current (Isat): 4A
footprint IND-SMD_L11.6-W10.1
pins: 1, 2

## CYPD3171-24LQXQ
designator U?
USB Interface IC USB Type-C Port Controller; Manufacturer_Name: Infineon; Geometry.Height: 0.6mm; Manufacturer_Part_Number: CYPD3171-24LQXQ; Mouser Part Number: 727-CYPD3171-24LQXQ; Mouser Price/Stock: https://www.mouser.co.uk/ProductDetail/Infineon-Technologies/CYPD3171-24LQXQ?qs=1mbolxNpo8elFh%2FoOY9E7A%3D%3D; Arrow Part Number: CYPD3171-24LQXQ; Arrow Price/Stock: https://www.arrow.com/en/products/cypd3171-24lqxq/cypress-semiconductor; Datasheet Link: https://componentsearchengine.com/Datasheets/2/CYPD3171-24LQXQ.pdf
footprint QFN50P400X400X60-25N-D
pins: 1 GPIO_1, 2 GPIO_2, 3 VBUS_P_CTRL, 4 VBUS_C_CTRL, 5 DP1/GPIO, 6 DM1/GPIO, 7 SWD_DAT_0/GPIO, 8 SWD_CLK_0/GPIO, 9 AXRES/GPIO, 10 GPIO_3, 11 VBUS_C_MON_DISCHARGE, 12 GPIO_20VT_1, 13 GPIO_20VT_2, 14 CC2, 15 CC1, 16 DM0/GPIO, 17 DP0/GPIO, 18 VBUS_IN_DISCHARGE, 19 CSP, 20 FB, 21 CATH/COMP, 22 GND, 23 VDDD, 24 VCCD, 25 EP

## CYPD3177-24LQXQ
designator U?
USB Interface IC USB Type-C port controller CYPD3177; Manufacturer_Name: Infineon; Geometry.Height: 0.6mm; Manufacturer_Part_Number: CYPD3177-24LQXQ; Mouser Part Number: 727-CYPD3177-24LQXQ; Mouser Price/Stock: https://www.mouser.co.uk/ProductDetail/Infineon-Technologies/CYPD3177-24LQXQ?qs=PzGy0jfpSMvR3aDH5AdWfA%3D%3D; Arrow Part Number: CYPD3177-24LQXQ; Arrow Price/Stock: https://www.arrow.com/en/products/cypd3177-24lqxq/infineon-technologies-ag?utm_currency=USD&region=nac; Datasheet Link: https://au.mouser.com/datasheet/2/196/CYPR_S_A0012903526_1-3004964.pdf
footprint QFN50P400X400X60-25N-D
pins: 1 VBUS_MIN, 2 VBUS_MAX, 3 VBUS_FET_EN, 4 SAFE_PWR_EN, 5 ISNK_COARSE, 6 ISNK_FINE, 7 HPI_INT, 8 GPIO_1, 9 FAULT, 10 FLIP, 11 VDC_OUT, 12 HPI_SDA, 13 HPI_SCL, 14 CC2, 15 CC1, 16 D-, 17 D+, 18 VBUS_IN, 19 GND_1, 20 DNU1, 21 DNU2, 22 GND_2, 23 VDDD, 24 VCCD, 25 GND_3

## DBT50G-7.62-2P-BK-P
designator U?  (value not drawn)
Manufacturer: DORABO(地博电气); Add into BOM: yes; Barrier Type: 带盖板; Pitch: 7.62mm; Structure: 1x2P; Pin Location: 边脚; Current Rating (Max): 20A; Voltage Rating (Max): 300V; Wire Gauge - AWG: 12~22; Number of PINs Per Row: 2; Symbol: DBT50G-7.62-2P; Device: DBT50G-7.62-2P-BK-P; LCSC Part Name: 7.62mm 1x2P 每排P数:2 排数:1 直针 边脚; Supplier Part: C496127; Manufacturer Part: DBT50G-7.62-2P-BK-P; Supplier Footprint: 插件,P=7.62mm; JLCPCB Part Class: Extended Part; Datasheet: https://atta.szlcsc.com/upload/public/pdf/source/20230321/5EF6A0D07A73B1490602C5D26A4C0507.pdf; Supplier: LCSC; Convert to PCB: yes; Mounting Style: 直针; Number of Pins: 2P; Number of Rows: 1; Wire Gauge - mm2: -; Operating Temperature Range: -40℃~+105℃; Color: 黑色
footprint CONN-TH_2P-P7.62_L15.2-W16.7-EX4.2
3D model CONN-TH_2P-P7.62_L15.2-W16.7-EX4.2
pins: 1, 2

## DRV8323HRTAR
designator U?
60V Three-Phase Smart Gate Driver With Three Current Shunt Amplifiers; Manufacturer_Name: Texas Instruments; Geometry.Height: 0.8mm; Manufacturer_Part_Number: DRV8323HRTAR; Mouser Part Number: 595-DRV8323HRTAR; Mouser Price/Stock: https://www.mouser.co.uk/ProductDetail/Texas-Instruments/DRV8323HRTAR?qs=u4fy%2FsgLU9N%252BsI8bz2iwaQ%3D%3D; Arrow Part Number: DRV8323HRTAR; Arrow Price/Stock: https://www.arrow.com/en/products/drv8323hrtar/texas-instruments?utm_currency=USD&region=nac; Datasheet Link: http://www.ti.com/lit/gpn/drv8323
footprint QFN50P600X600X80-41N-D
pins: 1 CPL, 2 CPH, 3 VCP, 4 VM, 5 VDRAIN, 6 GHA, 7 SHA, 8 GLA, 9 SPA, 10 SNA, 11 SNB, 12 SPB, 13 GLB, 14 SHB, 15 GHB, 16 GHC, 17 SHC, 18 GLC, 19 SPC, 20 SNC, 21 SOC, 22 SOB, 23 SOA, 24 VREF, 25 NFAULT, 26 MODE, 27 IDRIVE, 28 VDS, 29 GAIN, 30 ENABLE, 31 CAL, 32 AGND, 33 DVDD, 34 INHA, 35 INLA, 36 INHB, 37 INLB, 38 INHC, 39 INLC, 40 PGND, 41 EP_(GND)

## DSHP04TS-S
designator SW?  (value not drawn)
Manufacturer: XKB Connectivity(中国星坤); Add into BOM: yes; Circuit: 单刀单掷; Number of Positions: 4位; Pin Style: 鸥翼型; Current Rating: 25mA; Voltage Rating: 24V; Operating Life: 3千次; Symbol: DSHP04TS-S; Device: DSHP04TS-S; LCSC Part Name: 间距1.27mm 平拨,凹槽式 4位拨码开关; Supplier Part: C319050; Manufacturer Part: DSHP04TS-S; Supplier Footprint: SMD-8P,5.4x6.7mm; JLCPCB Part Class: Extended Part; Datasheet: https://atta.szlcsc.com/upload/public/pdf/source/20211009/11BE85C99D2C85B0991AF4F9D6EB8BDE.pdf; Supplier: LCSC; Convert to PCB: yes; Type: 平拨,凹槽式; Lead Pitch: 1.27mm; Operating Temperature: -20℃~+70℃; Color: 黑色
footprint SW-SMD_8P-L6.7-W5.4-P1.27-LS8.5
pins: 1, 2, 3, 4, 5, 6, 7, 8

## DSIC02LSGET
designator SW?  (value not drawn)
Manufacturer: YE; Add into BOM: yes; Circuit: 单刀单掷; Number of Positions: 2位; Symbol: DSIC02LSGET; Device: DSIC02LSGET; LCSC Part Name: 2.54mm 2位高推 拨码开关; Supplier Part: C54949; Manufacturer Part: DSIC02LSGET; Supplier Footprint: SMD-4P,5.1x6mm; JLCPCB Part Class: Extended Part; Datasheet: https://atta.szlcsc.com/upload/public/pdf/source/20150928/1457707425489.pdf; Supplier: LCSC; Convert to PCB: yes; Type: 平拨,凸起式; Lead Pitch: 2.54mm; Operating Life: -; Color: 黑色
footprint SW-SMD_4P-L6.0-W5.1-P2.54-LS9.3-BL
3D model SW-SMD_4P-L6.0-W5.1-P2.54-LS9.3-BL
pins: 1 A1, 2 A2, 3 B2, 4 B1

## DSWB02LHGET
designator SW?  (value not drawn)
Manufacturer: YE; Add into BOM: yes; Circuit: 单刀单掷; Number of Positions: 2位; Symbol: DSWB02LHGET; Device: DSWB02LHGET; LCSC Part Name: 拨码开关,平拨开关,DSWB02LHGET; Supplier Part: C99421; Manufacturer Part: DSWB02LHGET; Supplier Footprint: 插件; JLCPCB Part Class: Extended Part; Datasheet: https://atta.szlcsc.com/upload/public/pdf/source/20230906/EFD9230F686161BBBCD1B62855702D44.pdf; Supplier: LCSC; Convert to PCB: yes; Type: 平拨,凸起式; Lead Pitch: 2.54mm; Operating Life: -; Color: 红色
footprint SW-TH_DSWB02LHGET
3D model SW-TH_DS-02 (PCB3D Model)
pins: 1, 2, 3, 4

## EEEFT1V331AP
designator C?, comment EEEFT1V331AP 330uF ±20%  35V  (value not drawn)
Electrolytic Cap; Manufacturer: PANASONIC(松下); Add into BOM: yes; Ripple Current: 850mA@100kHz; Equivalent Series Resistance(ESR): 80mΩ@100kHz; φD: 8mm; L: 10.5mm; Lifetime @ Temp: 2000hrs@105℃; Symbol: EEEFT1V331AP; Device: EEEFT1V331AP; Supplier: LCSC; Supplier Part: C178598; Manufacturer Part: EEEFT1V331AP; Value: 330uF; JLCPCB Part Class: Extended Part; LCSC Part Name: 330uF ±20% 35V; Supplier Footprint: SMD,D8xL10.5mm; Datasheet: https://atta.szlcsc.com/upload/public/pdf/source/20180830/C242129_F847FF312EB4DF3F63D4DACA6BE8D7E1.pdf; Convert to PCB: yes; Tolerance: ±20%; Rated Voltage: 35V; Operating Temperature: -55℃~+105℃
footprint CAP-SMD_BD8.0-L8.3-W8.3-FD
pins: 1, 2

## ESD7951ST5G-ES
designator D?
Manufacturer: ElecSuper(静芯微); Add into BOM: yes; polarity: 双向; Reverse Stand-Off Voltage (Vrwm): 5V; Maximum Clamping Voltage: 12V; Peak Pulse Current (Ipp): 4.5A; Peak Pulse Power Dissipation (Ppp): 120W; Breakdown Voltage: 5.5V; Reverse Leakage Current (Ir): 1uA; Number of Lines: 单路; Type: ESD; Symbol: ESD7951ST5G-ES; Device: ESD7951ST5G-ES; LCSC Part Name: 0521/0531，单路双向ESD静电防护器件，20kV，CJ：0.25pF；HDMI/USB/NFC/RF超高速接口通讯防护; Supplier Part: C19170847; Manufacturer Part: ESD7951ST5G-ES; Supplier Footprint: DFN1006-2L; JLCPCB Part Class: Extended Part; Datasheet: https://atta.szlcsc.com/upload/public/pdf/source/20240905/23C7418442F1218201716B4063927F50.pdf; Supplier: LCSC; Convert to PCB: yes; Operating Temperature: -
footprint DFN1006-2L-BI
3D model DFN1006-2L-BI
pins: 1, 2

## ESDALC6V1W5
designator D?  (value not drawn)
Manufacturer: ST(意法半导体); Add into BOM: yes; Reverse Stand-Off Voltage (Vrwm): 3V; Maximum Clamping Voltage: 6.1V; Peak Pulse Power Dissipation (Ppp)@10/1000us: 25W; Number of Lines: 四路; Type: ESD; Symbol: ESDALC6V1W5; Device: ESDALC6V1W5; LCSC Part Name: ESDALC6V1W5; Supplier Part: C703691; Manufacturer Part: ESDALC6V1W5; Supplier Footprint: SOT-323-5; JLCPCB Part Class: Extended Part; Datasheet: https://atta.szlcsc.com/upload/public/pdf/source/20200715/C703691_5DF5F4EC1E21E35F57537A8AB5647C1E.pdf; Supplier: LCSC; Convert to PCB: yes; Breakdown Voltage: 6.1V; Operating Temperature: -40℃~+150℃@(Tj)
footprint SOT-323-5_L2.0-W1.3-LS2.1-BL
3D model SOT-323-5_L2.0-W1.3-LS2.1-BL
pins: 1 I/01, 2 GND, 3 I/02, 4 I/03, 5 I/04

## FC-135_32.7680KA-AG5
designator Y?
Crystal or Oscillator; Manufacturer_Name: Epson Timing; Manufacturer_Part_Number: FC-135 32.7680KA-AG5; Datasheet Link: https://www.mouser.ie/datasheet/2/137/C_255_en-1649561.pdf; Height: 0.9mm; Mouser Part Number: 732-532.7680KA-AG5; Mouser Price/Stock: https://www.mouser.co.uk/ProductDetail/Epson-Timing/FC-135-32.7680KA-AG5?qs=f9yNj16SXrKrONtUE%2FGTTg%3D%3D; Arrow Part Number: FC-135 32.7680KA-AG5; Arrow Price/Stock: https://www.arrow.com/en/products/fc-13532.7680ka-ag5/epson-electronics-america?utm_currency=USD&region=nac
footprint FC135327680KAAG5
pins: 2 CRYSTAL_2, ?1

## FUSE
designator F?
Fuse
footprint FUSE-1812 (Fuse, SMD, 1812)
footprint F0603
footprint F0805
footprint F1206
pins: 1, 2

## GR227M050F16RR0VL4FP0
designator C?, comment 220uF/50V  (value not drawn)
capacitor; Manufacturer: CX(承兴); Symbol: 220uF 50V 8*16Green high frequency; Device: GR227M050F16RR0VL4FP0; Add into BOM: yes; Value: 220uF; Tolerance: ±20%; Rated Voltage: 50V; φD: 8mm; L: 16mm; Lifetime @ Temp: 3000hrs@105℃; LCSC Part Name: 220uF ±20% 50V 绿; Supplier Part: C45103; Manufacturer Part: GR227M050F16RR0VL4FP0; Supplier Footprint: 插件,D8xL16mm; JLCPCB Part Class: Extended Part; Datasheet: https://atta.szlcsc.com/upload/public/pdf/source/20211027/ED0DA65C69F42D9BDEC91091BA4C03CD.pdf; Supplier: LCSC; Convert to PCB: yes; Ripple Current: -; Equivalent Series Resistance(ESR): -; Lead Spacing: 3.5mm; Operating Temperature: -40℃~+105℃
footprint CAP-TH_BD8.0-P3.50-D0.6-FD
3D model CAP-TH_D8.0-H8.0-P3.50
pins: 1, 2

## H1102NLT
designator T?  (value not drawn)
10/100Base-T Single Port / Surface Mount Magnetics; Manufacturer: PULSE(普思）; Add into BOM: yes; Turns Ratio: 1:1；1:1; Symbol: H1102NLT; Device: H1102NLT; LCSC Part Name: H1102NLT; Supplier Part: C18584; Manufacturer Part: H1102NLT; Supplier Footprint: SMD,12.7x7.1mm; JLCPCB Part Class: Extended Part; Datasheet: https://atta.szlcsc.com/upload/public/pdf/source/20140402/1457707041060.pdf; Supplier: LCSC; Convert to PCB: yes; operating temperature: 0℃~+70℃
footprint XFMR-SMD_H1102NLT
pins: 1, 2, 3, 4, 5, 6, 7, 8, 9, 10, 11, 12, 13, 14, 15, 16

## HR913550AE
designator RJ?  (value not drawn)
RJ45 Connector; Manufacturer: HANRUN(汉仁); Add into BOM: yes; Connector Type: RJ插座; Number of Ports: 1; LED: 带LED; Symbol: HR913550AE; Device: HR913550AE; LCSC Part Name: RJ45 带LED; Supplier Part: C192706; Manufacturer Part: HR913550AE; Supplier Footprint: 插件; JLCPCB Part Class: Extended Part; Datasheet: https://atta.szlcsc.com/upload/public/pdf/source/20180508/C192706_2B56A7C816801C3481685A66EFCFA7F8.pdf; Supplier: LCSC; Convert to PCB: yes; USOC Codes: RJ45; Shielding: -; Ratings: -
footprint RJ45-TH_HR913550AE
pins: 1 TD+, 2 TD-, 3 RD+, 4 TCT, 5 RCT, 6 RD-, 7 NC, 8 CHS GND, 9 LED(G)_A, 10 LED(G)_K, 11 LED(Y)_K, 12 LED(Y)_A, 13 SHIELD, 14 SHIELD

## HR915310A
designator D?
Manufacturer: HANRUN(汉仁); Add into BOM: yes; Connector Type: RJ45插座; Number of Ports: 1; Shielding: 有屏蔽; LED: 带LED; Symbol: HR915310A; Device: HR915310A; LCSC Part Name: 直插 带LED; Supplier Part: C2760326; Manufacturer Part: HR915310A; Supplier Footprint: 插件; JLCPCB Part Class: Extended Part; Datasheet: https://atta.szlcsc.com/upload/public/pdf/source/20210316/C2760326_934B5677F6CBBE849ED751BE596ED3E1.pdf; Supplier: LCSC; Convert to PCB: yes; Mounting Style: 直插; Ratings: -; Operating Temperature Range: 0℃~+70℃
footprint RJ45-TH_HR915310A
3D model RJ45-TH_HR915310A
footprint RJ45-TH_HR915310A
pins: 1 TD+, 2 TD-, 3 TCT, 4 NC, 5 RCT, 6 RD+, 7 RD-, 8 CHS GND, 9 LED_G+, 10 LED_G-, 11 LED_Y-, 12 LED_Y+, 13 SHELL, 14 SHELL